# Altium integrated library SRP4020TA-1R5M.IntLib: 1 symbol
Pins are listed as number, name and electrical type; pins without a type are passive.

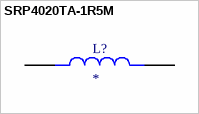
[diagram p0: symbol SRP4020TA-1R5M]

## SRP4020TA-1R5M
designator L?
1.5 ÂµH Shielded Drum Core, Wirewound Inductor 4.5 A 42mOhm Max 2-SMD; MP: SRP4020TA-1R5M; MF: Bourns; Check_prices: https://www.snapeda.com/parts/SRP4020TA-1R5M/Bourns/view-part/?ref=eda; Package: SMD-2 Bourns; Value: *; Purchase-URL: https://pricing.snapeda.com/search/part/SRP4020TA-1R5M/?ref=eda; SnapEDA_Link: https://www.snapeda.com/parts/SRP4020TA-1R5M/Bourns/view-part/?ref=snap; Availability: In Stock; Price: None
footprint IND_SRP4020TA-1R5M
pins: 1, 2